# Altium footprint library XH2.54.PcbLib: 25 footprints (part 2 of 2)
Each footprint in its own frame and in the unit in brackets; x right, y up, seen from the top. Pads: shape width x height; smd on the part's side, far side on the other; paste and mask are expansions set on the pad; w line width, h text height; cw(c..) or ccw(c..) is an arc to the next point about the centre after c.
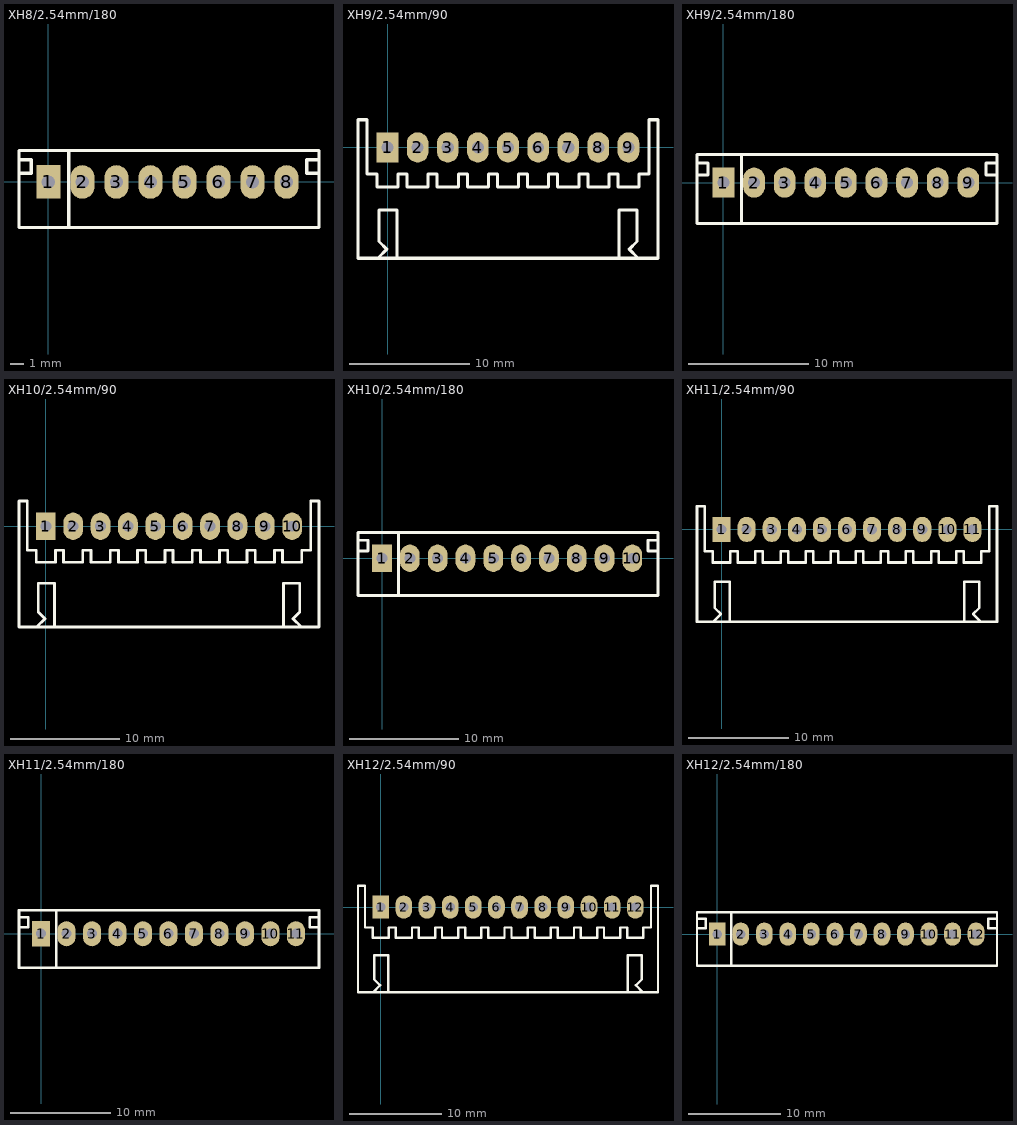
[diagram p1: the footprints below, top view; thin cyan lines are the x and y axes]

## XH8/2.54mm/180 [mm]
pads (8):
  rect 1.8x2.5 hole 1: 1(0,0)
  oval 1.8x2.5 hole 1: 2(2.54,0) 3(5.08,0) 4(7.62,0) 5(10.16,0) 6(12.7,0) 7(15.24,0) 8(17.78,0)
Top Overlay:
  lines w0.254: -2.196,0.65 -1.27,0.65 -1.27,1.65 -2.196,1.65 ; 1.504,-3.4 1.504,2.35 ; 20.204,0.65 19.278,0.65 19.278,1.65 20.204,1.65 ; -2.196,-3.4 20.204,-3.4 20.204,2.35 -2.196,2.35 -2.196,-3.4
3D body "JST-B8B-XH-A.STEP": height 7, standoff -3.4, extent -2.196,-3.4 20.204,2.35

## XH9/2.54mm/90 [mm]
pads (9):
  rect 1.8x2.5 hole 1: 1(0,0)
  oval 1.8x2.5 hole 1: 2(2.5,0) 3(5,0) 4(7.5,0) 5(10,0) 6(12.5,0) 7(15,0) 8(17.5,0) 9(20,0)
Top Overlay:
  lines w0.254: -0.79,-9.172 -0.064,-8.445 -0.7,-7.809 -0.7,-5.2 0.8,-5.2 0.8,-9.2 ; 19.2,-9.2 19.2,-5.2 20.7,-5.2 20.7,-7.809 20.064,-8.445 20.79,-9.172 ; -2.45,-9.2 -2.45,2.3 -1.7,2.3 -1.7,-2.2 -0.875,-2.2 -0.875,-3.3 0.875,-3.3 0.875,-2.2 1.625,-2.2 1.625,-3.3 3.375,-3.3 3.375,-2.2 4.125,-2.2 4.125,-3.3 5.875,-3.3 5.875,-2.2 6.625,-2.2 6.625,-3.3 8.375,-3.3 8.375,-2.2 9.125,-2.2 9.125,-3.3 10.875,-3.3 10.875,-2.2 11.625,-2.2 11.625,-3.3 13.375,-3.3 13.375,-2.2 14.125,-2.2 14.125,-3.3 15.875,-3.3 15.875,-2.2 16.625,-2.2 16.625,-3.3 18.375,-3.3 18.375,-2.2 19.125,-2.2 19.125,-3.3 20.875,-3.3 20.875,-2.2 21.7,-2.2 21.7,2.3 22.45,2.3 22.45,-9.2 -2.45,-9.2
3D body "JST-S9B-XH-A.STEP": height 6.1, standoff -3.4, extent -2.45,-9.2 22.45,2.3

## XH9/2.54mm/180 [mm]
pads (9):
  rect 1.8x2.5 hole 1: 1(0,0)
  oval 1.8x2.5 hole 1: 2(2.54,0) 3(5.08,0) 4(7.62,0) 5(10.16,0) 6(12.7,0) 7(15.24,0) 8(17.78,0) 9(20.32,0)
Top Overlay:
  lines w0.254: -2.196,0.65 -1.27,0.65 -1.27,1.65 -2.196,1.65 ; 1.504,-3.4 1.504,2.35 ; 22.704,0.65 21.778,0.65 21.778,1.65 22.704,1.65 ; -2.196,-3.4 -2.196,2.35 22.704,2.35 22.704,-3.4 -2.196,-3.4
3D body "JST-B9B-XH-A.STEP": height 7, standoff -3.4, extent -2.196,-3.4 22.704,2.35

## XH10/2.54mm/90 [mm]
pads (10):
  rect 1.8x2.5 hole 1: 1(0,0)
  oval 1.8x2.5 hole 1: 2(2.5,0) 3(5,0) 4(7.5,0) 5(10,0) 6(12.5,0) 7(15,0) 8(17.5,0) 9(20,0) 10(22.5,0)
Top Overlay:
  lines w0.254: -0.79,-9.172 -0.064,-8.445 -0.7,-7.809 -0.7,-5.2 0.8,-5.2 0.8,-9.2 ; 21.7,-9.2 21.7,-5.2 23.2,-5.2 23.2,-7.809 22.564,-8.445 23.29,-9.172 ; -2.45,-9.2 -2.45,2.3 -1.7,2.3 -1.7,-2.2 -0.875,-2.2 -0.875,-3.3 0.875,-3.3 0.875,-2.2 1.625,-2.2 1.625,-3.3 3.375,-3.3 3.375,-2.2 4.125,-2.2 4.125,-3.3 5.875,-3.3 5.875,-2.2 6.625,-2.2 6.625,-3.3 8.375,-3.3 8.375,-2.2 9.125,-2.2 9.125,-3.3 10.875,-3.3 10.875,-2.2 11.625,-2.2 11.625,-3.3 13.375,-3.3 13.375,-2.2 14.125,-2.2 14.125,-3.3 15.875,-3.3 15.875,-2.2 16.625,-2.2 16.625,-3.3 18.375,-3.3 18.375,-2.2 19.125,-2.2 19.125,-3.3 20.875,-3.3 20.875,-2.2 21.625,-2.2 21.625,-3.3 23.375,-3.3 23.375,-2.2 24.2,-2.2 24.2,2.3 24.95,2.3 24.95,-9.2 -2.45,-9.2
3D body "JST-S10B-XH-A.STEP": height 6.1, standoff -3.4, extent -2.45,-9.2 24.95,2.3

## XH10/2.54mm/180 [mm]
pads (10):
  rect 1.8x2.5 hole 1: 1(0,0)
  oval 1.8x2.5 hole 1: 2(2.54,0) 3(5.08,0) 4(7.62,0) 5(10.16,0) 6(12.7,0) 7(15.24,0) 8(17.78,0) 9(20.32,0) 10(22.86,0)
Top Overlay:
  lines w0.254: -2.196,0.65 -1.27,0.65 -1.27,1.65 -2.196,1.65 ; 1.504,-3.4 1.504,2.35 ; 25.204,0.65 24.278,0.65 24.278,1.65 25.204,1.65 ; -2.196,-3.4 25.204,-3.4 25.204,2.35 -2.196,2.35 -2.196,-3.4
3D body "JST-B10B-XH-A.STEP": height 7, standoff -3.4, extent -2.196,-3.4 25.204,2.35

## XH11/2.54mm/90 [mm]
pads (11):
  rect 1.8x2.5 hole 1: 1(0,0)
  oval 1.8x2.5 hole 1: 2(2.5,0) 3(5,0) 4(7.5,0) 5(10,0) 6(12.5,0) 7(15,0) 8(17.5,0) 9(20,0) 10(22.5,0) 11(25,0)
Top Overlay:
  lines w0.254: -0.79,-9.172 -0.064,-8.445 -0.7,-7.809 -0.7,-5.2 0.8,-5.2 0.8,-9.2 ; 24.2,-9.2 24.2,-5.2 25.7,-5.2 25.7,-7.809 25.064,-8.445 25.79,-9.172 ; -2.45,-9.2 -2.45,2.3 -1.7,2.3 -1.7,-2.2 -0.875,-2.2 -0.875,-3.3 0.875,-3.3 0.875,-2.2 1.625,-2.2 1.625,-3.3 3.375,-3.3 3.375,-2.2 4.125,-2.2 4.125,-3.3 5.875,-3.3 5.875,-2.2 6.625,-2.2 6.625,-3.3 8.375,-3.3 8.375,-2.2 9.125,-2.2 9.125,-3.3 10.875,-3.3 10.875,-2.2 11.625,-2.2 11.625,-3.3 13.375,-3.3 13.375,-2.2 14.125,-2.2 14.125,-3.3 15.875,-3.3 15.875,-2.2 16.625,-2.2 16.625,-3.3 18.375,-3.3 18.375,-2.2 19.125,-2.2 19.125,-3.3 20.875,-3.3 20.875,-2.2 21.625,-2.2 21.625,-3.3 23.375,-3.3 23.375,-2.2 24.125,-2.2 24.125,-3.3 25.875,-3.3 25.875,-2.2 26.7,-2.2 26.7,2.3 27.45,2.3 27.45,-9.2 -2.45,-9.2
3D body "JST-S11B-XH-A.STEP": height 6.1, standoff -3.4, extent -2.45,-9.2 27.45,2.3

## XH11/2.54mm/180 [mm]
pads (11):
  rect 1.8x2.5 hole 1: 1(0,0)
  oval 1.8x2.5 hole 1: 2(2.54,0) 3(5.08,0) 4(7.62,0) 5(10.16,0) 6(12.7,0) 7(15.24,0) 8(17.78,0) 9(20.32,0) 10(22.86,0) 11(25.4,0)
Top Overlay:
  lines w0.254: -2.196,0.65 -1.27,0.65 -1.27,1.65 -2.196,1.65 ; 1.504,-3.4 1.504,2.35 ; 27.704,0.65 26.778,0.65 26.778,1.65 27.704,1.65 ; -2.196,-3.4 27.704,-3.4 27.704,2.35 -2.196,2.35 -2.196,-3.4
3D body "JST-B11B-XH-A.STEP": height 7, standoff -3.4, extent -2.196,-3.4 27.704,2.35

## XH12/2.54mm/90 [mm]
pads (12):
  rect 1.8x2.5 hole 1: 1(0,0)
  oval 1.8x2.5 hole 1: 2(2.5,0) 3(5,0) 4(7.5,0) 5(10,0) 6(12.5,0) 7(15,0) 8(17.5,0) 9(20,0) 10(22.5,0) 11(25,0) 12(27.5,0)
Top Overlay:
  lines w0.254: -0.79,-9.172 -0.064,-8.445 -0.7,-7.809 -0.7,-5.2 0.8,-5.2 0.8,-9.2 ; 26.7,-9.2 26.7,-5.2 28.2,-5.2 28.2,-7.809 27.564,-8.445 28.29,-9.172 ; -2.45,-9.2 29.95,-9.2 29.95,2.3 29.2,2.3 29.2,-2.2 28.375,-2.2 28.375,-3.3 26.625,-3.3 26.625,-2.2 25.875,-2.2 25.875,-3.3 24.125,-3.3 24.125,-2.2 23.375,-2.2 23.375,-3.3 21.625,-3.3 21.625,-2.2 20.875,-2.2 20.875,-3.3 19.125,-3.3 19.125,-2.2 18.375,-2.2 18.375,-3.3 16.625,-3.3 16.625,-2.2 15.875,-2.2 15.875,-3.3 14.125,-3.3 14.125,-2.2 13.375,-2.2 13.375,-3.3 11.625,-3.3 11.625,-2.2 10.875,-2.2 10.875,-3.3 9.125,-3.3 9.125,-2.2 8.375,-2.2 8.375,-3.3 6.625,-3.3 6.625,-2.2 5.875,-2.2 5.875,-3.3 4.125,-3.3 4.125,-2.2 3.375,-2.2 3.375,-3.3 1.625,-3.3 1.625,-2.2 0.875,-2.2 0.875,-3.3 -0.875,-3.3 -0.875,-2.2 -1.7,-2.2 -1.7,2.3 -2.45,2.3 -2.45,-9.2
3D body "JST-S12B-XH-A.STEP": height 6.1, standoff -3.4, extent -2.45,-9.2 29.95,2.3

## XH12/2.54mm/180 [mm]
pads (12):
  rect 1.8x2.5 hole 1: 1(0,0)
  oval 1.8x2.5 hole 1: 2(2.54,0) 3(5.08,0) 4(7.62,0) 5(10.16,0) 6(12.7,0) 7(15.24,0) 8(17.78,0) 9(20.32,0) 10(22.86,0) 11(25.4,0) 12(27.94,0)
Top Overlay:
  lines w0.254: -2.196,0.65 -1.27,0.65 -1.27,1.65 -2.196,1.65 ; 1.504,-3.4 1.504,2.35 ; 30.204,0.65 29.278,0.65 29.278,1.65 30.204,1.65 ; -2.196,-3.4 30.204,-3.4 30.204,2.35 -2.196,2.35 -2.196,-3.4
3D body "JST-B12B-XH-A.STEP": height 7, standoff -3.4, extent -2.196,-3.4 30.204,2.35